# Altium schematic symbol library symbols.SchLib: 18 symbols
Pins are listed as number, name and electrical type; pins without a type are passive.

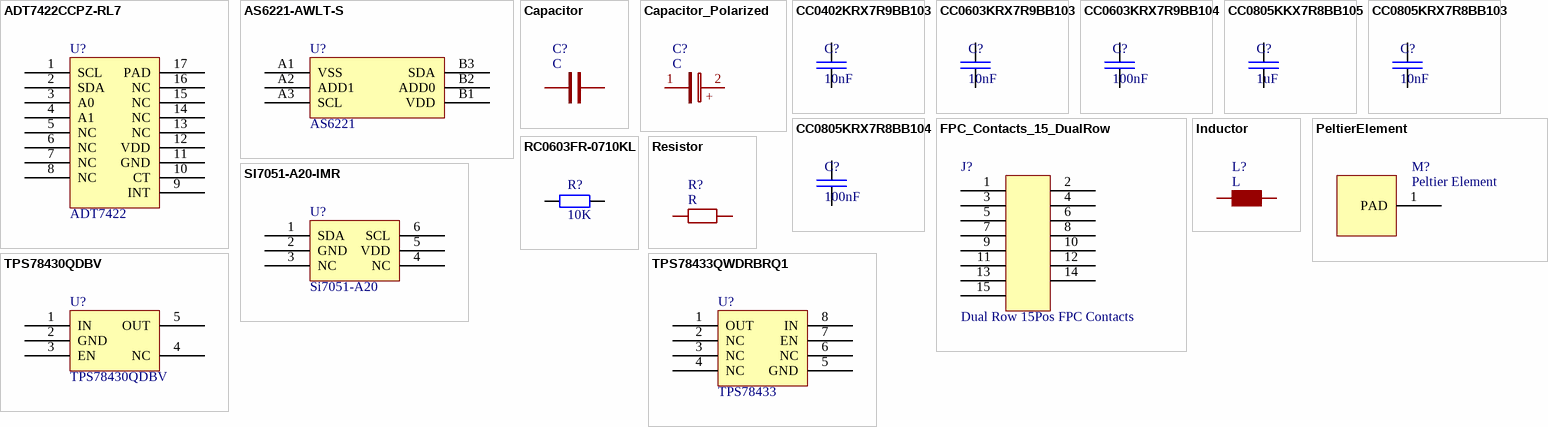
[diagram p0: symbols ADT7422CCPZ-RL7 to TPS78433QWDRBRQ1]

## ADT7422CCPZ-RL7
designator U?, comment ADT7422
ADT7422 Temperature Sensor, ±0.1°C Accuracy, 16b, Digital I2C / -40°C bis 125°C 16-LFCSP-WQ (4x4); Supplier 1: Mouser; Supplier Part Number 1: 584-ADT7422CCPZ-RL7; Supplier 2: Digi-Key; Supplier Part Number 2: 505-ADT7422CCPZ-RL7CT-ND
footprint ADT7422_QFN
pins: 1 SCL, 2 SDA, 3 A0, 4 A1, 5 NC, 6 NC, 7 NC, 8 NC, 9 INT, 10 CT, 11 GND, 12 VDD, 13 NC, 14 NC, 15 NC, 16 NC, 17 PAD

## AS6221-AWLT-S
designator U?, comment AS6221
AS6221 Temperature Sensor Digital -40°C ~ 125°C 16b 6-WLCSP (1.5x1.03); Supplier 1: Mouser; Supplier Part Number 1: 985-AS6221-AWLT-S; Supplier 2: Digi-Key; Supplier Part Number 2: 4991-AS6221-AWLT-SCT-ND
footprint AS6221_BGA
pins: A1 VSS, A2 ADD1, A3 SCL, B1 VDD, B2 ADD0, B3 SDA

## Capacitor
designator C?  value C
Generic unpolarized capacitor
pins: 1, 2

## Capacitor_Polarized
designator C?  value C
Generic polarized capacitor
pins: 1, 2
text: +

## CC0402KRX7R9BB103
designator C?, comment 10nF
CAP 10nF SM0402 X7R 50V YAGEO CC2; Manufacturer Part Number: CC0603KRX7R9BB103; Tolerance (%): 10; Voltage Rating (Volts): 50; Category: Capacitor; Manufacturer: Yageo; Package: 0603; Value: 10nF; ComponentLink1URL: http://www.yageo.com; ComponentLink1Description: Manufacturer Website; Supplier 1: Farnell; Supplier Part Number 1: 3369167; Supplier 2: Mouser; Supplier Part Number 2: 603-CC402KRX7R9BB103; Supplier 3: Digi-Key; Supplier Part Number 3: 311-1349-1-ND
footprint CAP_SM0402_YAGEOCC2_N (Capacitor, Yageo CC Class2, SM0402, IPC Medium Density)
pins: 1, 2

## CC0603KRX7R9BB103
designator C?, comment 10nF
CAP 10nF SM0603 X7R 50V YAGEO CC2; Manufacturer Part Number: CC0603KRX7R9BB103; Tolerance (%): 10; Voltage Rating (Volts): 50; Category: Capacitor; Manufacturer: Yageo; Package: 0603; Value: 10nF; Supplier Part Number 1: 722236; Supplier 1: Farnell; ComponentLink1URL: http://www.yageo.com; ComponentLink1Description: Manufacturer Website; Supplier 2: Digi-Key; Supplier Part Number 2: 311-1085-1-ND
footprint CAP_SM0603_YAGEOCC2_N (Capacitor, Yageo CC Class2, SM0603, IPC Medium Density)
pins: 1, 2

## CC0603KRX7R9BB104
designator C?, comment 100nF
CAP 100nF SM0603 X7R 50V YAGEO CC2; Manufacturer Part Number: CC0603KRX7R9BB104; Tolerance (%): 10; Voltage Rating (Volts): 50; Category: Capacitor; Manufacturer: Yageo; Package: 0603; Value: 100nF; Supplier Part Number 1: 1362556; Supplier 1: Farnell; ComponentLink1URL: http://www.yageo.com; ComponentLink1Description: Manufacturer Website; Supplier 2: Digi-Key; Supplier Part Number 2: 311-1344-1-ND
footprint CAP_SM0603_YAGEOCC2_N (Capacitor, Yageo CC Class2, SM0603, IPC Medium Density)
pins: 1, 2

## CC0805KKX7R8BB105
designator C?, comment 1uF
CAP 1uF SM0805 X7R 25V YAGEO CC2; Manufacturer Part Number: CC0805KKX7R8BB105; Tolerance (%): 10; Voltage Rating (Volts): 25; Category: Capacitor; Manufacturer: Yageo; Package: 0805; Value: 1uF; Supplier Part Number 1: 1458903; Supplier 1: Farnell; ComponentLink1URL: http://www.yageo.com; ComponentLink1Description: Manufacturer Website; Supplier 2: Digi-Key; Supplier Part Number 2: 311-1456-1-ND
footprint CAP_SM0805_YAGEOCC2_N (Capacitor, Yageo CC Class2, SM0805, IPC Medium Density)
pins: 1, 2

## CC0805KRX7R8BB103
designator C?, comment 10nF
CAP 10nF SM0805 X7R 25V YAGEO CC2; Manufacturer Part Number: CC0805KRX7R8BB103; Tolerance (%): 10; Voltage Rating (Volts): 25; Category: Capacitor; Manufacturer: Yageo; Package: 0805; Value: 10nF; Supplier Part Number 1: 3019767; Supplier 1: Farnell; ComponentLink1URL: http://www.yageo.com; ComponentLink1Description: Manufacturer Website
footprint CAP_SM0805_YAGEOCC2_N (Capacitor, Yageo CC Class2, SM0805, IPC Medium Density)
pins: 1, 2

## CC0805KRX7R8BB104
designator C?, comment 100nF
CAP 100nF SM0805 X7R 25V YAGEO CC2; Manufacturer Part Number: CC0805KRX7R8BB104; Tolerance (%): 10; Voltage Rating (Volts): 25; Category: Capacitor; Manufacturer: Yageo; Package: 0805; Value: 100nF; Supplier Part Number 1: 644249; Supplier 1: Farnell; ComponentLink1URL: http://www.yageo.com; ComponentLink1Description: Manufacturer Website; Supplier 2: Digi-Key; Supplier Part Number 2: 311-1141-1-ND
footprint CAP_SM0805_YAGEOCC2_N (Capacitor, Yageo CC Class2, SM0805, IPC Medium Density)
pins: 1, 2

## FPC_Contacts_15_DualRow
designator J?, comment Dual Row 15Pos FPC Contacts
footprint AYF331535_FPC
pins: 1, 2, 3, 4, 5, 6, 7, 8, 9, 10, 11, 12, 13, 14, 15

## Inductor
designator L?  value L
Generic inductor
pins: 1, 2

## PeltierElement
designator M?, comment Peltier Element
Peltier element 40mm x 40mm
footprint PeltierElement
footprint PeltierElement2
pins: 1 PAD

## RC0603FR-0710KL
designator R?, comment 10K
RES 10K SM0603 YAGEO RC_L; Manufacturer Part Number: RC0603FR-0710KL; Power (Watts): 0.1; Resistance (Ohms): 10000; Tolerance (%): 1; Category: Resistor; Manufacturer: Yageo; Package: 0603; Value: 10K; Supplier Part Number 1: 9238603; Supplier 1: Farnell; ComponentLink1URL: http://www.yageo.com; ComponentLink1Description: Manufacturer Website; Supplier 2: Digi-Key; Supplier Part Number 2: 311-10.0KHRCT-ND
footprint RES_SM0603_YAGEORC_N (Resistor, Yageo RC_L, SM0603, IPC Medium Density)
pins: 1, 2

## Resistor
designator R?  value R
Generic resistor
pins: 1, 2

## SI7051-A20-IMR
designator U?, comment Si7051-A20
Si7051-A20 Temperature Sensor ±0.1°C maximum accuracy, Digital I2C, -40°C ~ 125°C 14b 6-DFN (3x3); Supplier 1: Farnell; Supplier Part Number 1: 3265013RL; Supplier 2: Mouser; Supplier Part Number 2: 634-SI7051-A20-IMR; Supplier 3: Digi-Key; Supplier Part Number 3: 336-4764-1-ND
footprint SI7050/1/2/3/4/5 (SON, 6-Leads, Body 3,00x3,00mm, Pitch 1,00mm, Thermal Pad 2,50x1,50mm, IPC Medium Density)
pins: 1 SDA, 2 GND, 3 NC, 4 NC, 5 VDD, 6 SCL

## TPS78430QDBV
designator U?
TPS78430QDBV LDO 3.0V 300mA
footprint TPS784XXXQDBVRQ1_SOT23 (SOT23, 5-Leads, Body 2,90x2,80mm, Pitch 0,95mm, IPC Medium Density)
pins: 1 IN, 2 GND, 3 EN, 4 NC, 5 OUT

## TPS78433QWDRBRQ1
designator U?, comment TPS78433
TPS78433-Q1 3.3V, 300-mA, High-PSRR Low-Dropout Voltage Regulator With High Accuracy and Enable,  8-SON (3x3); Supplier 1: Mouser; Supplier Part Number 1: 595-TPS78433QWDRBRQ1; Supplier 2: Digi-Key; Supplier Part Number 2: 296-TPS78433QWDRBRQ1CT-ND
footprint TPS784xxxQDRBRQ1_SON (SON127P600-8N)
pins: 1 OUT, 2 NC, 3 NC, 4 NC, 5 GND, 6 NC, 7 EN, 8 IN